# Altium schematic symbol library CC0402JRNPO9BN101.SchLib: 1 symbol
Pins are listed as number, name and electrical type; pins without a type are passive.

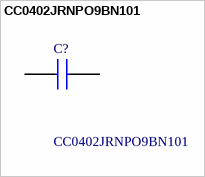
[diagram p0: symbol CC0402JRNPO9BN101]

## CC0402JRNPO9BN101
designator C?
YAGEO - CC0402JRNPO9BN101 - SMD Multilayer Ceramic Capacitor, 100 pF, 50 V, 0402 [1005 Metric], +/- 5%, C0G / NP0, CC Series; Manufacturer_Name: Yageo Group; Geometry.Height: 0.55mm; Mouser Part Number: 603-CC402JRNPO9BN101; Mouser Price/Stock: https://www.mouser.co.uk/ProductDetail/YAGEO/CC0402JRNPO9BN101?qs=AgBp2OyFlx996m5MagFg3g%3D%3D; Manufacturer_Part_Number: CC0402JRNPO9BN101; Datasheet Link: https://ad.componentsearchengine.com/Datasheets/2/CC0402JRNPO9BN101.pdf
footprint CAPC1005X55N
pins: 1, 2